# Altium schematic symbol library Schlib1.SchLib: 2 symbols
Pins are listed as number, name and electrical type; pins without a type are passive.

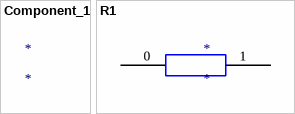
[diagram p0: symbols Component_1 to R1]

## Component_1
designator *

## R1
designator *
电阻
pins: 0, 1